# Altium integrated library Board_lib.IntLib: 15 symbols
Pins are listed as number, name and electrical type; pins without a type are passive.

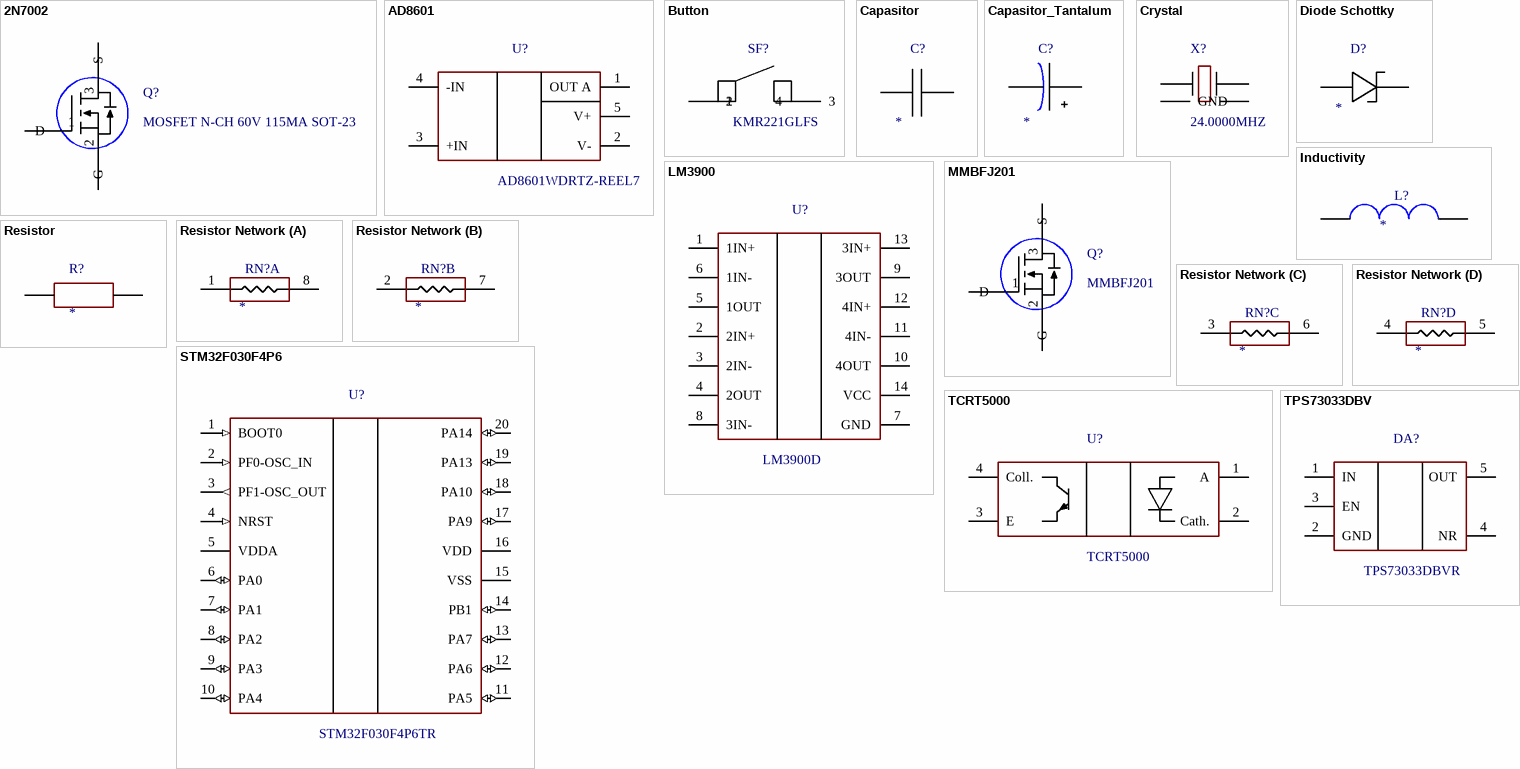
[diagram p0: symbols 2N7002 to TPS73033DBV]

## 2N7002
designator Q?, comment MOSFET N-CH 60V 115MA SOT-23
MOSFET N-Channel 60V 115mA (Ta) 200mW (Ta) Surface Mount SOT-23 (TO-236AB); Manufacturer: ON Semiconductor; Case: SOT-23-3; HelpURL: https://www.digikey.com/product-detail/en/on-semiconductor/2N7002/2N7002NCT-ND/244664; Model: MOSFET N-CH 60V 115MA SOT-23
footprint SOT-23-3
pins: 1 D, 2 G, 3 S

## AD8601
designator U?, comment AD8601WDRTZ-REEL7
IC OPAMP GP 1 CIRCUIT SOT23-5; Manufacturer: Analog Devices Inc.; Model: AD8601WDRTZ-REEL7; HelpURL: https://www.digikey.com/product-detail/en/analog-devices-inc/AD8601WDRTZ-REEL7/AD8601WDRTZ-REEL7TR-ND/2237618; Case: SOT-23-5
footprint SOT-23-5 (SOT23, 5-Leads, Body 2,90x2,80mm, Pitch 0,95mm, IPC High Density)
pins: 1 OUT A, 2 V-, 3 +IN, 4 -IN, 5 V+

## Button
designator SF?, comment KMR221GLFS
SWITCH TACTILE SPST-NO 0.05A 32V; Manufacturer: C&K; HelpURL: https://www.digikey.com/product-detail/en/c-k/KMR221GLFS/401-1427-1-ND/550466; Model: KMR221GLFS; Case: KMR221GLFS
footprint KMR221GLFS
pins: 1, 2, 3, 4

## Capasitor
designator C?
Value: *; Case: *; Manufacturer: *; HelpURL: *; Model: *
footprint C0603
pins: 1, 2

## Capasitor_Tantalum
designator C?
Value: *; Case: *; Manufacturer: *; HelpURL: *; Model: *
footprint TANT-A
pins: 1, 2

## Crystal
designator X?, comment 24.0000MHZ
CRYSTAL 24.0000MHZ 9PF SMD; Manufacturer: EPSON; Model: TSX-3225 24.0000MF20G-AC0; HelpURL: https://www.digikey.com/product-detail/en/epson/TSX-3225-24-0000MF20G-AC0/SER4185TR-ND/2819192; Case: TSX-3225; Value: 24.0000MHZ
footprint TSX-3225 (Crystal)
pins: 1, 2 GND, 3, 4 GND

## Diode Schottky
designator D?
Model: *; Manufacturer: *; Case: *; HelpURL: *
footprint SOD-523
pins: 1, 2

## Inductivity
designator L?
Model: *; Manufacturer: *; HelpURL: *; Case: *; Value: *
footprint IND1206
pins: 1, 2

## LM3900
designator U?, comment LM3900D
IC OPAMP GP 4 CIRCUIT 14SOIC; Manufacturer: Texas Instruments; Model: LM3900D; HelpURL: https://www.digikey.com/product-detail/en/texas-instruments/LM3900D/296-9564-5-ND/379857; Case: SOIC-14
footprint SOIC-14 (SOIC, 14-Leads, Body 7,15x3,90mm, Pitch 1,27mm, IPC Medium Density)
pins: 1 1IN+, 2 2IN+, 3 2IN-, 4 2OUT, 5 1OUT, 6 1IN-, 7 GND, 8 3IN-, 9 3OUT, 10 4OUT, 11 4IN-, 12 4IN+, 13 3IN+, 14 VCC

## MMBFJ201
designator Q?
JFET N-Channel 40V 350mW Surface Mount SOT-23-3; Manifacturer: ON Semiconductor; Case: SOT-23-3; HelpURL: https://www.digikey.com/product-detail/en/on-semiconductor/MMBFJ201/MMBFJ201TR-ND/1049584; Model: MMBFJ201
footprint SOT-23-3
pins: 1 D, 2 G, 3 S

## Resistor
designator R?
Model: *; Value: *; HelpURL: *; Case: *; Manufacturer: *
footprint R0603
pins: 1, 2

## Resistor Network
designator RN?  (graphical)
Model: *; Value: *; HelpURL: *; Case: *; Manufacturer: *
footprint RN_YC164-JR-072K2L (Chip Array, ConvexE, 8-Leads, Pitch 0,80mm,  Body 3,20x1,60mm,  IPC Medium Density)
part A pins: 1, 8
part B pins: 2, 7
part C pins: 3, 6
part D pins: 4, 5

## STM32F030F4P6
designator U?, comment STM32F030F4P6TR
IC MCU 32BIT 16KB FLASH 20TSSOP; Manufacturer: STMicroelectronics; Model: STM32F030F4P6TR; Case: TSSOP-20; HelpURL: https://www.digikey.com/product-detail/en/stmicroelectronics/STM32F030F4P6TR/497-17333-1-ND/7650385
footprint TSSOP-20
pins: 1 BOOT0 (in), 2 PF0-OSC_IN (in), 3 PF1-OSC_OUT (out), 4 NRST (in), 5 VDDA (power), 6 PA0 (io), 7 PA1 (io), 8 PA2 (io), 9 PA3 (io), 10 PA4 (io), 11 PA5 (io), 12 PA6 (io), 13 PA7 (io), 14 PB1 (io), 15 VSS (power), 16 VDD (power), 17 PA9 (io), 18 PA10 (io), 19 PA13 (io), 20 PA14 (io)

## TCRT5000
designator U?
SENSOR OPTO TRANS 15MM REFL PCB; Manufacturer: Vishay Semiconductor Opto Division; Model: TCRT5000; HelpURL: https://www.digikey.com/product-detail/en/vishay-semiconductor-opto-division/TCRT5000/751-1033-5-ND/1681167; Case: TCRT5000
footprint TCRT5000
pins: 1 A, 2 Cath., 3 E, 4 Coll.

## TPS73033DBV
designator DA?, comment TPS73033DBVR
IC REG LINEAR 3.3V 200MA SOT 23-5; Manufacturer: Texas Instruments; Case: SOT-23-5; HelpURL: https://www.digikey.com/product-detail/en/texas-instruments/TPS73033DBVR/296-17580-1-ND/705377; Model: TPS73033DBVR
footprint SOT-23-5 (Footprint not found)
footprint SOT-23-5 (SOT23, 5-Leads, Body 2,90x2,80mm, Pitch 0,95mm, IPC High Density)
footprint SOT-23-5 (SOT23, 5-Leads, Body 2,90x2,80mm, Pitch 0,95mm, IPC High Density)
pins: 1 IN, 2 GND, 3 EN, 4 NR, 5 OUT